# Altium footprint library AD558.PcbLib: 1 footprints
Each footprint in its own frame and in the unit in brackets; x right, y up, seen from the top. Pads: shape width x height; smd on the part's side, far side on the other; paste and mask are expansions set on the pad; w line width, h text height; cw(c..) or ccw(c..) is an arc to the next point about the centre after c.
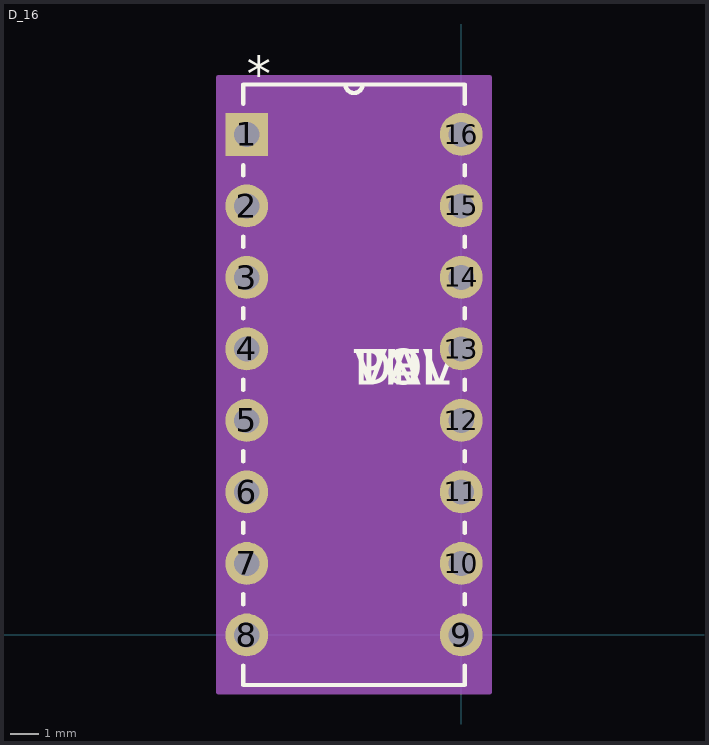
[diagram p0: the footprint, top view; thin cyan lines are the x and y axes]

## D_16 [mil]
pads (16):
  rect 60x60 / inner round 60 / far side rect 60x60 hole 35: 1(-300,700)
  round 60 hole 35: 2(-300,600) 3(-300,500) 4(-300,400) 5(-300,300) 6(-300,200) 7(-300,100) 8(-300,0) 9(0,0) 10(0,100) 11(0,200) 12(0,300) 13(0,400) 14(0,500) 15(0,600) 16(0,700)
Top Overlay:
  lines w6: -305,-42.71 -305,-70 5,-70 5,-42.71 ; -305,42.71 -305,57.29 ; -305,142.71 -305,157.29 ; -305,242.71 -305,257.29 ; -305,342.71 -305,357.29 ; -305,442.71 -305,457.29 ; -305,542.71 -305,557.29 ; -305,642.71 -305,657 ; -305,743 -305,770 5,770 5,742.71 ; -162,770 ccw(c-150,770) -138,770 ; 5,42.71 5,57.29 ; 5,142.71 5,157.29 ; 5,242.71 5,257.29 ; 5,342.71 5,357.29 ; 5,442.71 5,457.29 ; 5,542.71 5,557.29 ; 5,642.71 5,657.29
  text "*" at -300,760 h50
  text "PN" at -150,350 h50
  text "DEV" at -150,350 h50
  text "VAL" at -150,350 h50
  text "TOL" at -150,350 h50
Mechanical 13:
  lines w0: -162,770 ccw(c-150,770) -138,770
  text "*" at -300,760 h50
  text "RefDes2" at -150,350 h50
Mechanical 15:
  region: 40,-80 -340,-80 -340,780 40,780
  lines w6: -340,-80 40,-80 40,780 -340,780 -340,-80
3D body: height 10, standoff 0, extent 0,0 10,10